# Altium schematic symbol library SMD_components.SchLib: 24 symbols
Pins are listed as number, name and electrical type; pins without a type are passive.

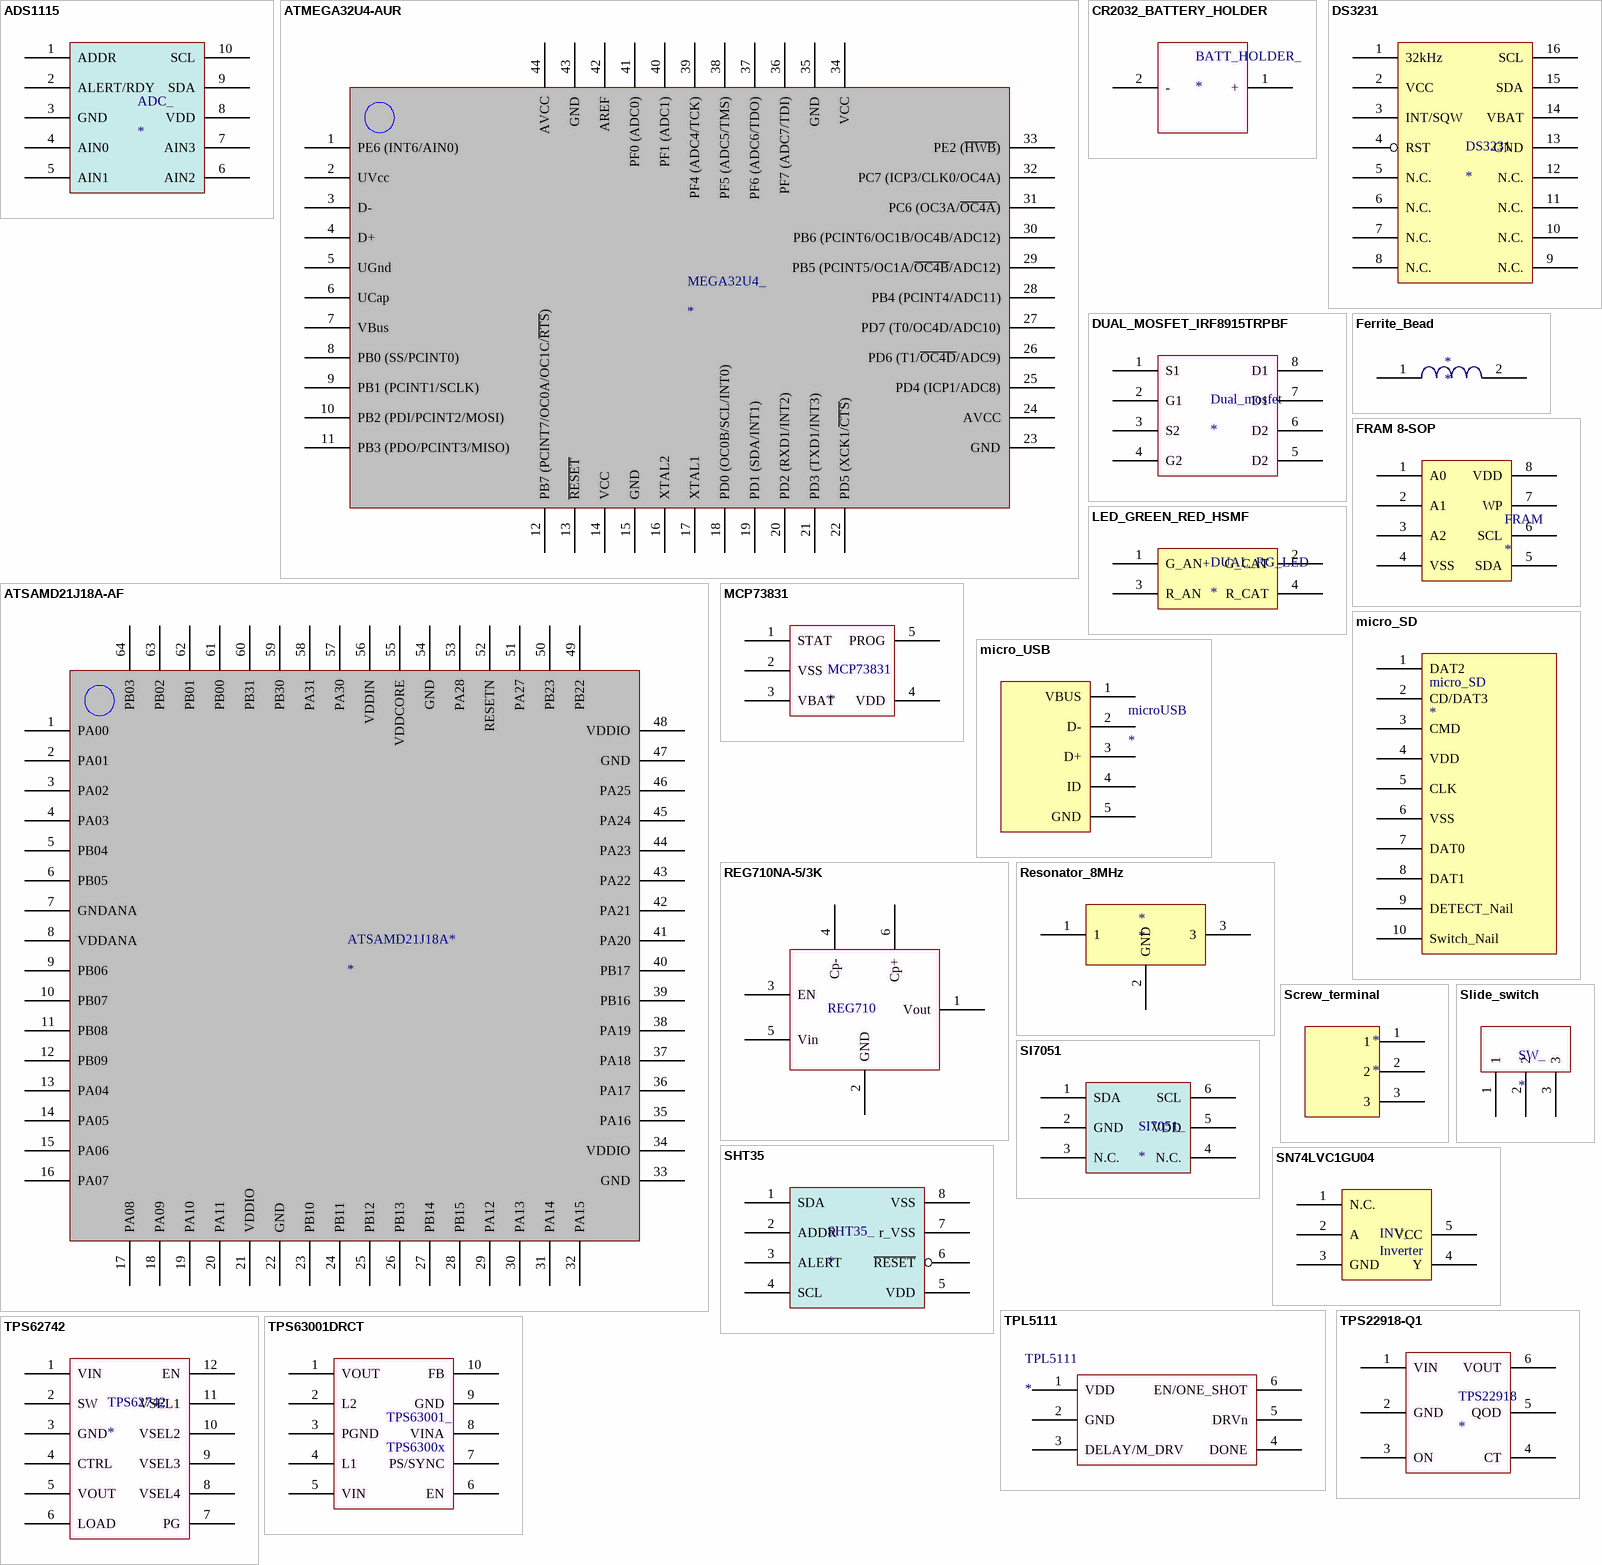
[diagram p0: symbols ADS1115 to TPS63001DRCT]

## ADS1115
designator ADC_
footprint VSSOP10
pins: 1 ADDR, 2 ALERT/RDY, 3 GND, 4 AIN0, 5 AIN1, 6 AIN2, 7 AIN3, 8 VDD, 9 SDA, 10 SCL

## ATMEGA32U4-AUR
designator MEGA32U4_
footprint Quad44
footprint Model Name (Footprint not found)
pins: 1 PE6 (INT6/AIN0), 2 UVcc, 3 D-, 4 D+, 5 UGnd, 6 UCap, 7 VBus, 8 PB0 (SS/PCINT0), 9 PB1 (PCINT1/SCLK), 10 PB2 (PDI/PCINT2/MOSI), 11 PB3 (PDO/PCINT3/MISO), 12 PB7 (PCINT7/OC0A/OC1C/~{RTS}), 13 ~{RESET}, 14 VCC, 15 GND, 16 XTAL2, 17 XTAL1, 18 PD0 (OC0B/SCL/INT0), 19 PD1 (SDA/INT1), 20 PD2 (RXD1/INT2), 21 PD3 (TXD1/INT3), 22 PD5 (XCK1/~{CTS}), 23 GND, 24 AVCC, 25 PD4 (ICP1/ADC8), 26 PD6 (T1/~{OC4D}/ADC9), 27 PD7 (T0/OC4D/ADC10), 28 PB4 (PCINT4/ADC11), 29 PB5 (PCINT5/OC1A/~{OC4B}/ADC12), 30 PB6 (PCINT6/OC1B/OC4B/ADC12), 31 PC6 (OC3A/~{OC4A}), 32 PC7 (ICP3/CLK0/OC4A), 33 PE2 (~{HWB}), 34 VCC, 35 GND, 36 PF7 (ADC7/TDI), 37 PF6 (ADC6/TDO), 38 PF5 (ADC5/TMS), 39 PF4 (ADC4/TCK), 40 PF1 (ADC1), 41 PF0 (ADC0), 42 AREF, 43 GND, 44 AVCC

## ATSAMD21J18A-AF
designator ATSAMD21J18A*
footprint Quad64
footprint QFN64_round_EXTRA_longPin
footprint QFN64_round_longPin
footprint QFN64_rect_shortPin
pins: 1 PA00, 2 PA01, 3 PA02, 4 PA03, 5 PB04, 6 PB05, 7 GNDANA, 8 VDDANA, 9 PB06, 10 PB07, 11 PB08, 12 PB09, 13 PA04, 14 PA05, 15 PA06, 16 PA07, 17 PA08, 18 PA09, 19 PA10, 20 PA11, 21 VDDIO, 22 GND, 23 PB10, 24 PB11, 25 PB12, 26 PB13, 27 PB14, 28 PB15, 29 PA12, 30 PA13, 31 PA14, 32 PA15, 33 GND, 34 VDDIO, 35 PA16, 36 PA17, 37 PA18, 38 PA19, 39 PB16, 40 PB17, 41 PA20, 42 PA21, 43 PA22, 44 PA23, 45 PA24, 46 PA25, 47 GND, 48 VDDIO, 49 PB22, 50 PB23, 51 PA27, 52 RESETN, 53 PA28, 54 GND, 55 VDDCORE, 56 VDDIN, 57 PA30, 58 PA31, 59 PB30, 60 PB31, 61 PB00, 62 PB01, 63 PB02, 64 PB03

## CR2032_BATTERY_HOLDER
designator BATT_HOLDER_
footprint CR2032_battery_holder
pins: 1 +, 2 -

## DS3231
designator DS3231
footprint 16 SO
pins: 1 32kHz, 2 VCC, 3 INT/SQW, 4 RST, 5 N.C., 6 N.C., 7 N.C., 8 N.C., 9 N.C., 10 N.C., 11 N.C., 12 N.C., 13 GND, 14 VBAT, 15 SDA, 16 SCL

## DUAL_MOSFET_IRF8915TRPBF
designator Dual_mosfet
footprint SOP-8
pins: 1 S1, 2 G1, 3 S2, 4 G2, 5 D2, 6 D2, 7 D1, 8 D1

## Ferrite_Bead
designator *
footprint FERRITE_BEAD (MMZ2012Y152B)
pins: 1, 2

## FRAM 8-SOP
designator FRAM
footprint SOP-8
pins: 1 A0, 2 A1, 3 A2, 4 VSS, 5 SDA, 6 SCL, 7 WP, 8 VDD

## LED_GREEN_RED_HSMF
designator DUAL_RG_LED
footprint LED4
pins: 1 G_AN+, 2 G_CAT, 3 R_AN, 4 R_CAT

## MCP73831
designator MCP73831
footprint SOT-23
pins: 1 STAT, 2 VSS, 3 VBAT, 4 VDD, 5 PROG

## micro_SD
designator micro_SD
footprint MicroSD_Connector (MOLEX 502774-0891)
pins: 1 DAT2, 2 CD/DAT3, 3 CMD, 4 VDD, 5 CLK, 6 VSS, 7 DAT0, 8 DAT1, 9 DETECT_Nail, 10 Switch_Nail

## micro_USB
designator microUSB
footprint MicroUSB_CONN
pins: 1 VBUS, 2 D-, 3 D+, 4 ID, 5 GND

## REG710NA-5/3K
designator REG710  (value not drawn)
REG710NA-5/3K
footprint SOT-23-6
pins: 1 Vout, 2 GND, 3 EN, 4 Cp-, 5 Vin, 6 Cp+

## Resonator_8MHz
designator *
footprint Resonator_8MHz (CSTCE8M00G55Z-R0)
pins: 1, 2 GND, 3

## Screw_terminal
designator *
footprint Screw Terminal
pins: 1, 2, 3

## SHT35
designator SHT35_
footprint SHT35
pins: 1 SDA, 2 ADDR, 3 ALERT, 4 SCL, 5 VDD, 6 ~{RESET}, 7 r_VSS, 8 VSS

## SI7051
designator SI7051_
footprint SI7051
pins: 1 SDA, 2 GND, 3 N.C., 4 N.C., 5 VDD, 6 SCL

## Slide_switch
designator SW_
footprint Slide_SW (PCM12SMTR)
pins: 1, 2, 3

## SN74LVC1GU04
designator INV_, comment Inverter
footprint SOT-23
pins: 1 N.C., 2 A, 3 GND, 4 Y, 5 VCC

## TPL5111
designator TPL5111
pins: 1 VDD, 2 GND, 3 DELAY/M_DRV, 4 DONE, 5 DRVn, 6 EN/ONE_SHOT

## TPS22918-Q1
designator TPS22918
footprint SOT-23-6
pins: 1 VIN, 2 GND, 3 ON, 4 CT, 5 QOD, 6 VOUT

## TPS62742
designator TPS62742
footprint WSON12
pins: 1 VIN, 2 SW, 3 GND, 4 CTRL, 5 VOUT, 6 LOAD, 7 PG, 8 VSEL4, 9 VSEL3, 10 VSEL2, 11 VSEL1, 12 EN

## TPS63001DRCT
designator TPS63001_, comment TPS6300x
footprint SON10
pins: 1 VOUT, 2 L2, 3 PGND, 4 L1, 5 VIN, 6 EN, 7 PS/SYNC, 8 VINA, 9 GND, 10 FB

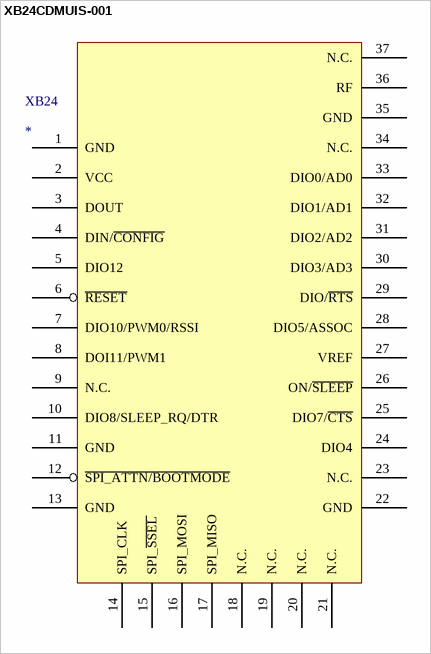
[diagram p1: symbol XB24CDMUIS-001]

## XB24CDMUIS-001
designator XB24
footprint XB24_RADIO (XB24CDMUIS-001)
pins: 1 GND, 2 VCC, 3 DOUT, 4 DIN/~{CONFIG}, 5 DIO12, 6 ~{RESET}, 7 DIO10/PWM0/RSSI, 8 DOI11/PWM1, 9 N.C., 10 DIO8/SLEEP_RQ/DTR, 11 GND, 12 ~{SPI_ATTN/BOOTMODE}, 13 GND, 14 SPI_CLK, 15 SPI_~{SSEL}, 16 SPI_MOSI, 17 SPI_MISO, 18 N.C., 19 N.C., 20 N.C., 21 N.C., 22 GND, 23 N.C., 24 DIO4, 25 DIO7/~{CTS}, 26 ON/~{SLEEP}, 27 VREF, 28 DIO5/ASSOC, 29 DIO/~{RTS}, 30 DIO3/AD3, 31 DIO2/AD2, 32 DIO1/AD1, 33 DIO0/AD0, 34 N.C., 35 GND, 36 RF, 37 N.C.